# EAGLE library part SMH-105-02-T-D-TR (library SMH-105-02-T-D-TR)
Headers & Wire Housings .100" Horizontal Surface Mount Socket Strip Source: Datasheet
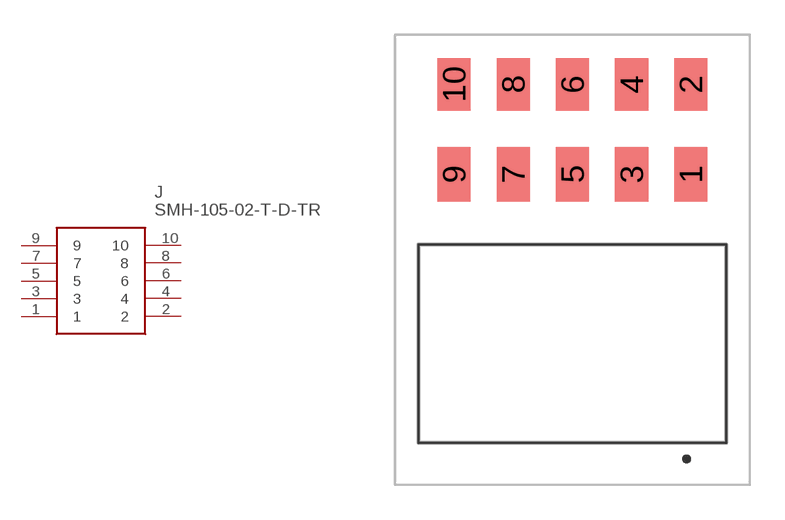
[diagram p0: symbol with the pads of SMH10502TDTR; footprint SMH10502TDTR]

Designator prefix J

## SMH-105-02-T-D-TR (Description: Headers & Wire Housings .100" Horizontal Surface Mount Socket Strip; Height: 4.95mm; Manufacturer_Name: SAMTEC; Manufacturer_Part_Number: SMH-105-02-T-D-TR; Mouser_Part_Number: 200-SMH10502TDTR; Mouser_Price-Stock: https://www.mouser.co.uk/ProductDetail/Samtec/SMH-105-02-T-D-TR?qs=Cqqh%252BS766wkiSGNTyR683A%3D%3D)  [SMH10502TDTR]
1  1
2  2
3  3
4  4
5  5
6  6
7  7
8  8
9  9
10  10

## Footprint SMH10502TDTR (pad centres in mm)
SMH-105-02-T-D-TR-2
smd 1.42 x 2.34: 1 5.08,0; 3 2.54,0; 5 0,0; 7 -2.54,0; 9 -5.08,0
smd 1.42 x 2.24: 2 5.08,3.86; 4 2.54,3.86; 6 0,3.86; 8 -2.54,3.86; 10 -5.08,3.86